# EAGLE library part MAX11068 (library maxim)
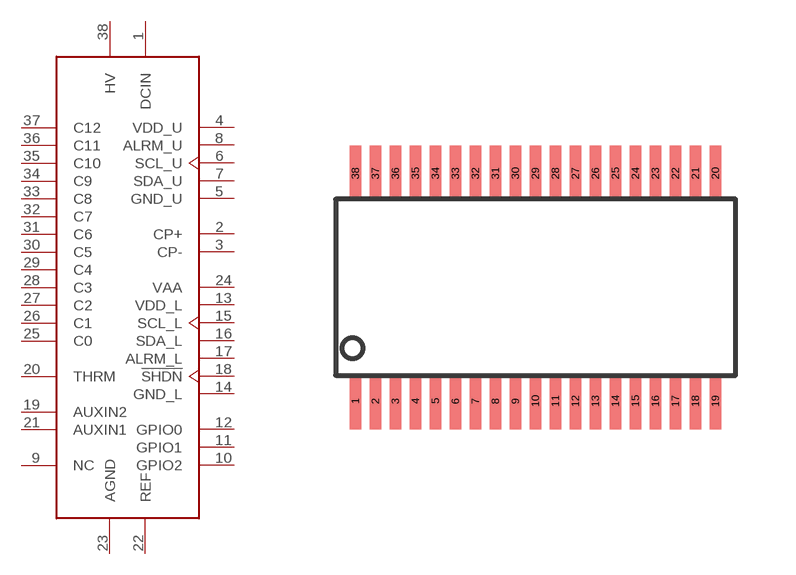
[diagram p0: symbol with the pads of TSSOP38; footprint TSSOP38]

Designator prefix -

## MAX11068  [TSSOP38]
1  DCIN  pwr
2  CP+  pas
3  CP-  pas
4  VDD_U  pwr
5  GND_U  sup
6  SCL_U  out
7  SDA_U
8  ALRM_U  in
9  NC  nc
10  GPIO2
11  GPIO1
12  GPIO0
13  VDD_L  pwr
14  GND_L  sup
15  SCL_L  in
16  SDA_L
17  ALRM_L  out
18  !SHDN  in
19  AUXIN2  in
20  THRM  out
21  AUXIN1  in
22  REF  out
23  AGND  sup
24  VAA  pwr
25  C0
26  C1
27  C2
28  C3
29  C4
30  C5
31  C6
32  C7
33  C8
34  C9
35  C10
36  C11
37  C12
38  HV  pas

## Footprint TSSOP38 (pad centres in mm)
smd 0.28 x 1.4: 1 -4.5,-2.85; 2 -4,-2.85; 3 -3.5,-2.85; 4 -3,-2.85; 5 -2.5,-2.85; 6 -2,-2.85; 7 -1.5,-2.85; 8 -1,-2.85; 9 -0.5,-2.85; 10 0,-2.85; 11 0.5,-2.85; 12 1,-2.85; 13 1.5,-2.85; 14 2,-2.85; 15 2.5,-2.85; 16 3,-2.85; 17 3.5,-2.85; 18 4,-2.85; 19 4.5,-2.85; 20 4.5,2.85; 21 4,2.85; 22 3.5,2.85; 23 3,2.85; 24 2.5,2.85; 25 2,2.85; 26 1.5,2.85; 27 1,2.85; 28 0.5,2.85; 29 0,2.85; 30 -0.5,2.85; 31 -1,2.85; 32 -1.5,2.85; 33 -2,2.85; 34 -2.5,2.85; 35 -3,2.85; 36 -3.5,2.85; 37 -4,2.85; 38 -4.5,2.85